# EAGLE library part AT91SAM7S (library AT91SAM7S)
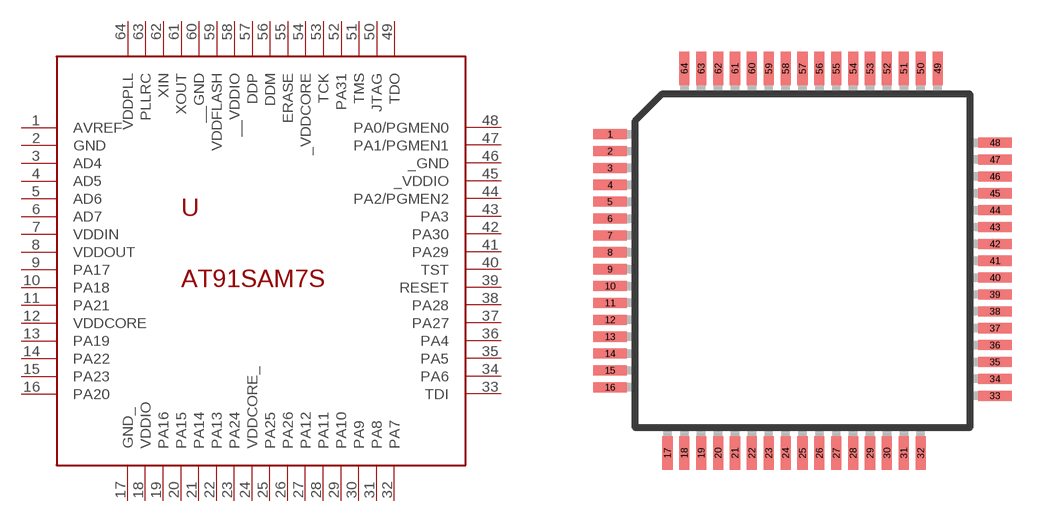
[diagram p0: symbol with the pads of VQFP64; footprint VQFP64]

Designator prefix -

## AT91SAM7S  [VQFP64]
1  AVREF
2  GND
3  AD4
4  AD5
5  AD6
6  AD7
7  VDDIN
8  VDDOUT
9  PA17
10  PA18
11  PA21
12  VDDCORE
13  PA19
14  PA22
15  PA23
16  PA20
17  GND_
18  VDDIO
19  PA16
20  PA15
21  PA14
22  PA13
23  PA24
24  VDDCORE_
25  PA25
26  PA26
27  PA12
28  PA11
29  PA10
30  PA9
31  PA8
32  PA7
33  TDI
34  PA6
35  PA5
36  PA4
37  PA27
38  PA28
39  RESET
40  TST
41  PA29
42  PA30
43  PA3
44  PA2/PGMEN2
45  _VDDIO
46  _GND
47  PA1/PGMEN1
48  PA0/PGMEN0
49  TDO
50  JTAG
51  TMS
52  PA31
53  TCK
54  _VDDCORE
55  ERASE
56  DDM
57  DDP
58  __VDDIO
59  VDDFLASH
60  __GND
61  XOUT
62  XIN
63  PLLRC
64  VDDPLL

## Footprint VQFP64 (pad centres in mm)
64-lead VQVP Source. http://www.atmel.com/dyn/resources/prod_documents/doc4136.pdf
smd 1 x 0.3: 1 -5.7,3.75; 2 -5.7,3.25; 3 -5.7,2.75; 4 -5.7,2.25; 5 -5.7,1.75; 6 -5.7,1.25; 7 -5.7,0.75; 8 -5.7,0.25; 9 -5.7,-0.25; 10 -5.7,-0.75; 11 -5.7,-1.25; 12 -5.7,-1.75; 13 -5.7,-2.25; 14 -5.7,-2.75; 15 -5.7,-3.25; 16 -5.7,-3.75; 33 5.7,-4; 34 5.7,-3.5; 35 5.7,-3; 36 5.7,-2.5; 37 5.7,-2; 38 5.7,-1.5; 39 5.7,-1; 40 5.7,-0.5; 41 5.7,0; 42 5.7,0.5; 43 5.7,1; 44 5.7,1.5; 45 5.7,2; 46 5.7,2.5; 47 5.7,3; 48 5.7,3.5
smd 0.3 x 1: 17 -4,-5.7; 18 -3.5,-5.7; 19 -3,-5.7; 20 -2.5,-5.7; 21 -2,-5.7; 22 -1.5,-5.7; 23 -1,-5.7; 24 -0.5,-5.7; 25 0,-5.7; 26 0.5,-5.7; 27 1,-5.7; 28 1.5,-5.7; 29 2,-5.7; 30 2.5,-5.7; 31 3,-5.7; 32 3.5,-5.7; 49 4,5.7; 50 3.5,5.7; 51 3,5.7; 52 2.5,5.7; 53 2,5.7; 54 1.5,5.7; 55 1,5.7; 56 0.5,5.7; 57 0,5.7; 58 -0.5,5.7; 59 -1,5.7; 60 -1.5,5.7; 61 -2,5.7; 62 -2.5,5.7; 63 -3,5.7; 64 -3.5,5.7